# Altium footprint library 杂项库.PcbLib: 585 footprints (part 19 of 37)
Each footprint in its own frame and in the unit in brackets; x right, y up, seen from the top. Pads: shape width x height; smd on the part's side, far side on the other; paste and mask are expansions set on the pad; w line width, h text height; cw(c..) or ccw(c..) is an arc to the next point about the centre after c.
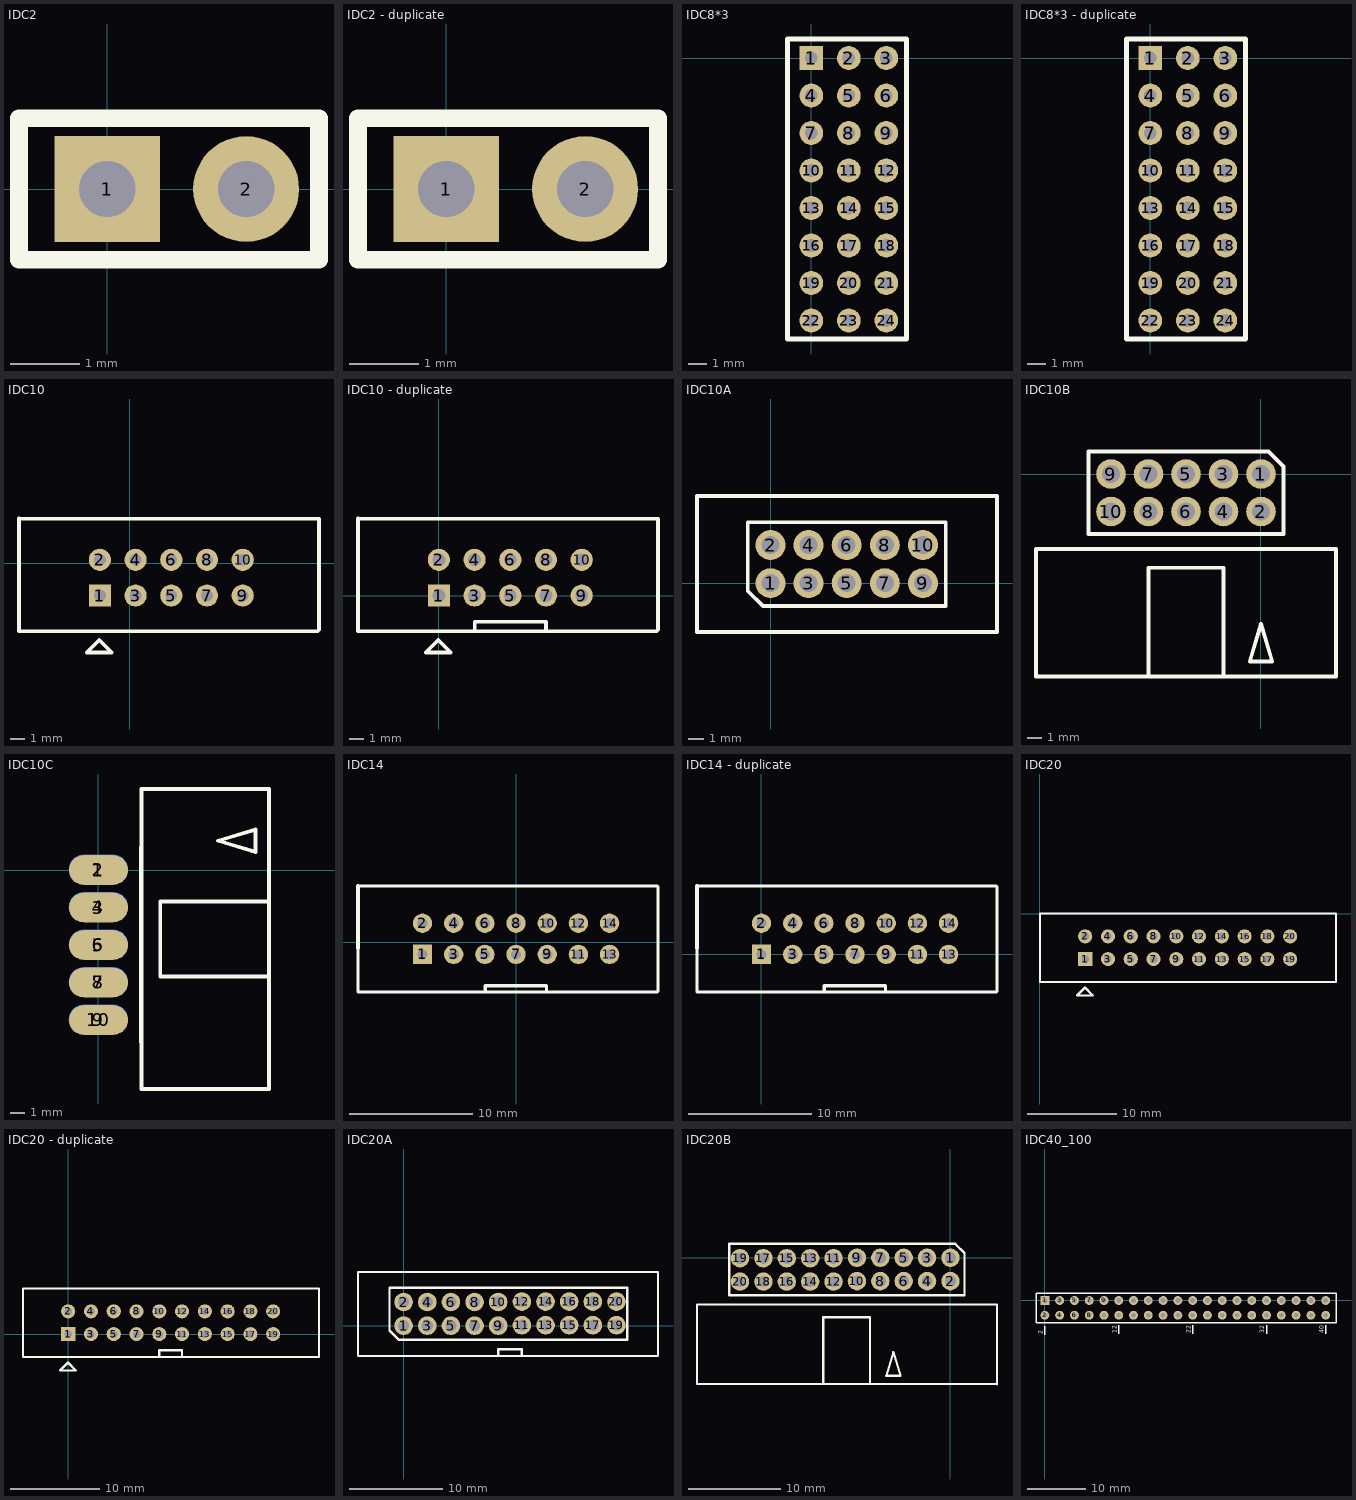
[diagram p18: the footprints below, top view; thin cyan lines are the x and y axes]

## IDC2 [mil]
pads (2):
  rect 60x60 hole 32: 1(0,0)
  round 60 hole 32: 2(78.74,0)
Top Overlay:
  lines w10: -50,-40 -50,40 120,40 120,-40 110,-40 -50,-40

## IDC2 - duplicate [mil]
pads (2):
  rect 60x60 hole 32: 1(0,0)
  round 60 hole 32: 2(78.74,0)
Top Overlay:
  lines w10: -50,-40 110,-40 120,-40 120,40 -50,40 -50,-40

## IDC8*3 [mm]
pads (24):
  rect 1.27x1.27 hole 0.686: 1(0,0)
  round 1.27 hole 0.686: 2(2,0) 3(4,0) 4(0,-2) 5(2,-2) 6(4,-2) 7(0,-4) 8(2,-4) 9(4,-4) 10(0,-6) 11(2,-6) 12(4,-6) 13(0,-8) 14(2,-8) 15(4,-8) 16(0,-10) 17(2,-10) 18(4,-10) 19(0,-12) 20(2,-12) 21(4,-12) 22(0,-14) 23(2,-14) 24(4,-14)
Top Overlay:
  lines w0.254: -1.27,-14.986 5.08,-14.986 5.08,1.016 -1.27,1.016 -1.27,-14.986

## IDC8*3 - duplicate [mm]
pads (24):
  rect 1.27x1.27 hole 0.686: 1(0,0)
  round 1.27 hole 0.686: 2(2,0) 3(4,0) 4(0,-2) 5(2,-2) 6(4,-2) 7(0,-4) 8(2,-4) 9(4,-4) 10(0,-6) 11(2,-6) 12(4,-6) 13(0,-8) 14(2,-8) 15(4,-8) 16(0,-10) 17(2,-10) 18(4,-10) 19(0,-12) 20(2,-12) 21(4,-12) 22(0,-14) 23(2,-14) 24(4,-14)
Top Overlay:
  lines w0.254: -1.27,-14.986 -1.27,1.016 5.08,1.016 5.08,-14.986 -1.27,-14.986

## IDC10 [mil]
pads (10):
  rect 62x62 hole 33: 1(-83.6,-90.47)
  round 62 hole 33: 2(-83.6,9.53) 3(16.4,-90.47) 4(16.4,9.53) 5(116.4,-90.47) 6(116.4,9.53) 7(216.4,-90.47) 8(216.4,9.53) 9(316.4,-90.47) 10(316.4,9.53)
Top Overlay:
  lines w10: -310,-189.96 526.38,-189.96 ; -310,125 530,125 530,-186.34 ; -120,-250 -50,-250 -85,-215 -120,-250
  lines w12: -310,-189.96 -310,125

## IDC10 - duplicate [mil]
pads (10):
  rect 62x62 hole 36: 1(0,0)
  round 62 hole 36: 2(0,100) 3(100,0) 4(100,100) 5(200,0) 6(200,100) 7(300,0) 8(300,100) 9(400,0) 10(400,100)
Top Overlay:
  lines w10: -226.4,-99.49 609.98,-99.49 ; -226.4,215.47 613.6,215.47 613.6,-95.87 ; 100,-99.49 100,-73 300,-73 300,-99.49 ; -36.4,-159.53 33.6,-159.53 -1.4,-124.53 -36.4,-159.53
  lines w12: -226.4,-99.49 -226.4,215.47

## IDC10A [mm]
pads (10):
  round 2 hole 1.2: 1(0,0) 2(0,2.54) 3(2.54,0) 4(2.54,2.54) 5(5.08,0) 6(5.08,2.54) 7(7.62,0) 8(7.62,2.54) 9(10.16,0) 10(10.16,2.54)
Top Overlay:
  lines w0.254: -4.902,5.817 15.098,5.817 ; -4.9,5.74 -4.9,-3.26 15.1,-3.26 15.1,5.74 ; -1.524,-0.508 -1.524,4.064 11.684,4.064 11.684,-1.524 -0.508,-1.524 -1.524,-0.508

## IDC10B [mm]
pads (10):
  round 2 hole 1.2: 1(0,0) 2(0,-2.54) 3(-2.54,0) 4(-2.54,-2.54) 5(-5.08,0) 6(-5.08,-2.54) 7(-7.62,0) 8(-7.62,-2.54) 9(-10.16,0) 10(-10.16,-2.54)
Top Overlay:
  lines w0.254: -7.62,-13.716 -7.62,-6.35 -2.54,-6.35 -2.54,-13.716 ; -15.24,-5.08 5.08,-5.08 ; -15.24,-5.08 5.08,-5.08 ; -15.24,-5.08 -15.24,-13.716 5.08,-13.716 5.08,-5.08 ; -11.684,-4.064 1.524,-4.064 1.524,0.508 0.508,1.524 -11.684,1.524 -11.684,-4.064 ; -0.762,-12.7 0,-10.16 0.762,-12.7 -0.762,-12.7

## IDC10C [mm]
pads (10):
  oval 4x2 smd: 1(0,0) 3(0,-2.54) 5(0,-5.08) 7(0,-7.62) 9(0,-10.16)
  oval 4x2 smd far side: 2(0,0.025) 4(0,-2.515) 6(0,-5.055) 8(0,-7.595) 10(0,-10.135)
Top Overlay:
  lines w0.254: 2.87,-11.659 2.87,-10.643 2.87,1.549 ; 11.557,-7.214 4.191,-7.214 4.191,-2.134 11.557,-2.134 ; 2.921,-14.834 2.921,5.486 ; 2.921,-14.834 2.921,5.486 ; 2.921,-14.834 11.557,-14.834 11.557,5.486 2.921,5.486 ; 8.103,1.981 10.643,1.219 10.643,2.743 8.103,1.981

## IDC14 [mil]
pads (14):
  rect 62x62 hole 33: 1(-300.22,-39.37)
  round 62 hole 33: 2(-300.22,60.63) 3(-200.22,-39.37) 4(-200.22,60.63) 5(-100.22,-39.37) 6(-100.22,60.63) 7(-0.22,-39.37) 8(-0.22,60.63) 9(99.78,-39.37) 10(99.78,60.63) 11(199.78,-39.37) 12(199.78,60.63) 13(299.78,-39.37) 14(299.78,60.63)
Top Overlay:
  lines w10: -507,-20 -507,-160 -348,-160 453,-160 455,-158 455,178 453,180 -507,180 ; -99,-160 -99,-140 98,-140 98,-160
  lines w12: -507,-20 -507,180

## IDC14 - duplicate [mil]
pads (14):
  rect 62x62 hole 33: 1(0,0)
  round 62 hole 33: 2(0,100) 3(100,0) 4(100,100) 5(200,0) 6(200,100) 7(300,0) 8(300,100) 9(400,0) 10(400,100) 11(500,0) 12(500,100) 13(600,0) 14(600,100)
Top Overlay:
  lines w10: -206.78,19.37 -206.78,-120.63 -47.78,-120.63 753.22,-120.63 755.22,-118.63 755.22,217.37 753.22,219.37 -206.78,219.37 ; 201.22,-120.63 201.22,-100.63 398.22,-100.63 398.22,-120.63
  lines w12: -206.78,19.37 -206.78,219.37

## IDC20 [mil]
pads (20):
  rect 62x62 hole 33: 1(198.84,-199.72)
  round 62 hole 33: 2(198.84,-99.72) 3(298.84,-199.72) 4(298.84,-99.72) 5(398.84,-199.72) 6(398.84,-99.72) 7(498.84,-199.72) 8(498.84,-99.72) 9(598.84,-199.72) 10(598.84,-99.72) 11(698.84,-199.72) 12(698.84,-99.72) 13(798.84,-199.72) 14(798.84,-99.72) 15(898.84,-199.72) 16(898.84,-99.72) 17(998.84,-199.72) 18(998.84,-99.72) 19(1098.84,-199.72) 20(1098.84,-99.72)
Top Overlay:
  lines w10: 0,-300 0,0 1300,0 1300,-300 0,-300 ; 162.44,-359.25 232.44,-359.25 197.44,-324.25 162.44,-359.25

## IDC20 - duplicate [mil]
pads (20):
  rect 62x62 hole 33: 1(0,0)
  round 62 hole 33: 2(0,100) 3(100,0) 4(100,100) 5(200,0) 6(200,100) 7(300,0) 8(300,100) 9(400,0) 10(400,100) 11(500,0) 12(500,100) 13(600,0) 14(600,100) 15(700,0) 16(700,100) 17(800,0) 18(800,100) 19(900,0) 20(900,100)
Top Overlay:
  lines w10: 400,-100 400,-71 500,-71 500,-100 ; -198.84,-100.28 -198.84,199.72 1101.16,199.72 1101.16,-100.28 -198.84,-100.28 ; -36.4,-159.53 33.6,-159.53 -1.4,-124.53 -36.4,-159.53

## IDC20A [mm]
pads (20):
  round 2 hole 1.2: 1(0,0) 2(0,2.54) 3(2.54,0) 4(2.54,2.54) 5(5.08,0) 6(5.08,2.54) 7(7.62,0) 8(7.62,2.54) 9(10.16,0) 10(10.16,2.54) 11(12.7,0.051) 12(12.7,2.591) 13(15.24,0.051) 14(15.24,2.591) 15(17.78,0.051) 16(17.78,2.591) 17(20.32,0.051) 18(20.32,2.591) 19(22.86,0.051) 20(22.86,2.591)
Top Overlay:
  lines w0.254: 10.16,-3.251 10.16,-2.515 12.7,-2.515 12.7,-3.251 ; -4.9,-3.26 27.317,-3.235 27.317,5.765 -4.9,5.74 -4.9,-3.26 ; -1.524,-0.508 -0.508,-1.524 24.028,-1.524 24.028,4.064 -1.524,4.064 -1.524,-0.508

## IDC20B [mm]
pads (20):
  round 2 hole 1.2: 1(0,0) 2(0,-2.54) 3(-2.54,0) 4(-2.54,-2.54) 5(-5.08,0) 6(-5.08,-2.54) 7(-7.62,0) 8(-7.62,-2.54) 9(-10.16,0) 10(-10.16,-2.54) 11(-12.7,-0.051) 12(-12.7,-2.591) 13(-15.24,-0.051) 14(-15.24,-2.591) 15(-17.78,-0.051) 16(-17.78,-2.591) 17(-20.32,-0.051) 18(-20.32,-2.591) 19(-22.86,-0.051) 20(-22.86,-2.591)
Top Overlay:
  lines w0.254: -13.818,-13.716 -13.818,-6.452 -8.738,-6.452 -8.738,-13.716 ; -27.534,-5.08 -27.534,-13.716 5.055,-13.741 5.055,-5.105 ; -27.534,-5.08 5.055,-5.105 ; -27.534,-5.08 5.055,-5.105 ; -24.028,-4.064 1.524,-4.064 1.524,0.508 0.508,1.524 -24.028,1.524 -24.028,-4.064 ; -6.96,-12.802 -5.436,-12.802 -6.198,-10.262 -6.96,-12.802

## IDC40_100 [mil]
pads (40):
  rect 60x60 hole 33: 1(0,0)
  round 60 hole 33: 2(0,-100) 3(100,0) 4(100,-100) 5(200,0) 6(200,-100) 7(300,0) 8(300,-100) 9(400,0) 10(400,-100) 11(500,0) 12(500,-100) 13(600,0) 14(600,-100) 15(700,0) 16(700,-100) 17(800,0) 18(800,-100) 19(900,0) 20(900,-100) 21(1000,0) 22(1000,-100) 23(1100,0) 24(1100,-100) 25(1200,0) 26(1200,-100) 27(1300,0) 28(1300,-100) 29(1400,0) 30(1400,-100) 31(1500,0) 32(1500,-100) 33(1600,0) 34(1600,-100) 35(1700,0) 36(1700,-100) 37(1800,0) 38(1800,-100) 39(1900,0) 40(1900,-100)
Top Overlay:
  lines w10: 0,-233 0,-175 ; 500,-226 500,-168 ; 1000,-226 1000,-168 ; 1500,-226 1500,-168 ; 1900,-226 1900,-168 ; -60,-150 1970,-150 1970,50 -60,50 -60,-150
  text "40" at 1886,-222 h30
  text "32" at 1486,-222 h30
  text "22" at 986,-222 h30
  text "12" at 486,-222 h30
  text "2" at -14,-229 h30